# Altium schematic symbol library Sensor.SchLib: 6 symbols
Pins are listed as number, name and electrical type; pins without a type are passive.

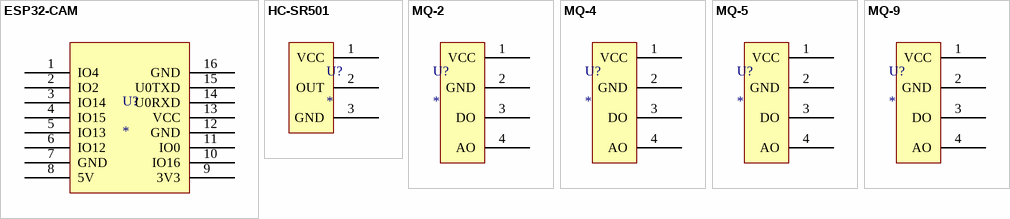
[diagram p0: symbols ESP32-CAM to MQ-9]

## ESP32-CAM
designator U?
pins: 1 IO4, 2 IO2, 3 IO14, 4 IO15, 5 IO13, 6 IO12, 7 GND, 8 5V, 9 3V3, 10 IO16, 11 IO0, 12 GND, 13 VCC, 14 U0RXD, 15 U0TXD, 16 GND

## HC-SR501
designator U?
pins: 1 VCC, 2 OUT, 3 GND

## MQ-2
designator U?
pins: 1 VCC, 2 GND, 3 DO, 4 AO

## MQ-4
designator U?
pins: 1 VCC, 2 GND, 3 DO, 4 AO

## MQ-5
designator U?
pins: 1 VCC, 2 GND, 3 DO, 4 AO

## MQ-9
designator U?
pins: 1 VCC, 2 GND, 3 DO, 4 AO